# EAGLE library part FRDM_KL_25Z (library IUTV3)
Arduino shield footprint
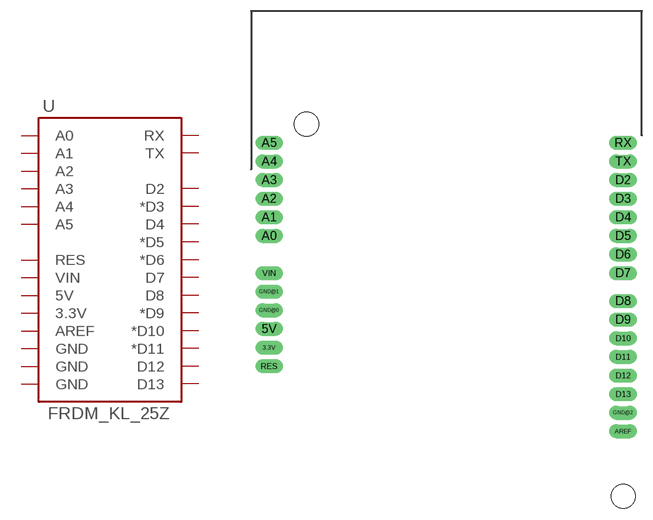
[diagram p51: symbol with the pads of FRDM_KL_25Z; footprint FRDM_KL_25Z]

Designator prefix U

## FRDM_KL_25Z  [FRDM_KL_25Z]
3.3V  3.3V
5V  5V
A0  A0
A1  A1
A2  A2
A3  A3
A4  A4
A5  A5
AREF  AREF
D2  D2
D3  *D3
D4  D4
D5  *D5
D6  *D6
D7  D7
D8  D8
D9  *D9
D10  *D10
D11  *D11
D12  D12
D13  D13
GND@0  GND
GND@1  GND
GND@2  GND
RES  RES
RX  RX
TX  TX
VIN  VIN

## Footprint FRDM_KL_25Z (pad centres in mm)
drill 1.016 pad 1.88 long: 3.3V -7.62,26.67; 5V -7.62,29.21; A0 -7.62,41.91; A1 -7.62,44.45; A2 -7.62,46.99; A3 -7.62,49.53; A4 -7.62,52.07; A5 -7.62,54.61; AREF 40.64,15.24; D2 40.64,49.53; D3 40.64,46.99; D4 40.64,44.45; D5 40.64,41.91; D6 40.64,39.37; D7 40.64,36.83; D8 40.64,33.02; D9 40.64,30.48; D10 40.64,27.94; D11 40.64,25.4; D12 40.64,22.86; D13 40.64,20.32; GND@0 -7.62,31.75; GND@1 -7.62,34.29; GND@2 40.64,17.78; RES -7.62,24.13; RX 40.64,54.61; TX 40.64,52.07; VIN -7.62,36.83
hole 3.302 at -2.54,57.15
hole 3.302 at 40.64,6.35